# EAGLE library part OLIMEX_DISCRET_R_MATRIX_4 (library iMX233-OLinuXino-Micro_Rev_D)
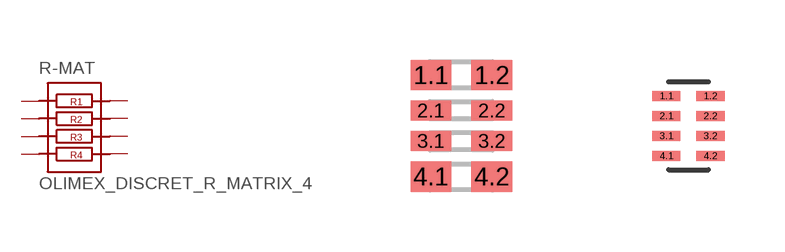
[diagram p3: symbol with the pads of OLIMEX_DISCRET_R_MATRIX_4; footprints OLIMEX_DISCRET_R_MATRIX_4, OLIMEX_DISCRET_R_MATRIX_4_0402]

Designator prefix R-MAT

## OLIMEX_DISCRET_R_MATRIX_4  [OLIMEX_DISCRET_R_MATRIX_4]
1.1  1.1  pas
1.2  1.2  pas
2.1  2.1  pas
2.2  2.2  pas
3.1  3.1  pas
3.2  3.2  pas
4.1  4.1  pas
4.2  4.2  pas

## OLIMEX_DISCRET_R_MATRIX_4_25X70  [OLIMEX_DISCRET_R_MATRIX_4_0402]
Pads as for OLIMEX_DISCRET_R_MATRIX_4

## OLIMEX_DISCRET_R_MATRIX_4_25X625  [OLIMEX_DISCRET_R_MATRIX_4_0402_25X625]
Pads as for OLIMEX_DISCRET_R_MATRIX_4

## Footprint OLIMEX_DISCRET_R_MATRIX_4 (pad centres in mm)
smd 1.016 x 0.762: 1.1 -0.762,1.27; 1.2 0.762,1.27; 4.1 -0.762,-1.27; 4.2 0.762,-1.27
smd 1.016 x 0.508: 2.1 -0.762,0.381; 2.2 0.762,0.381; 3.1 -0.762,-0.381; 3.2 0.762,-0.381

## Footprint OLIMEX_DISCRET_R_MATRIX_4_0402 (pad centres in mm)
smd 0.7 x 0.25: 1.1 -0.55,0.75; 1.2 0.55,0.75; 2.1 -0.55,0.25; 2.2 0.55,0.25; 3.1 -0.55,-0.25; 3.2 0.55,-0.25; 4.1 -0.55,-0.75; 4.2 0.55,-0.75

## Footprint OLIMEX_DISCRET_R_MATRIX_4_0402_25X625 (pad centres in mm)
smd 0.625 x 0.25: 1.1 -0.513,0.75; 1.2 0.512,0.75; 2.1 -0.513,0.25; 2.2 0.512,0.25; 3.1 -0.513,-0.25; 3.2 0.512,-0.25; 4.1 -0.513,-0.75; 4.2 0.512,-0.75